# EAGLE library part LED_DRIVER_TLC5946PWPR (library GTOR - Active Components)
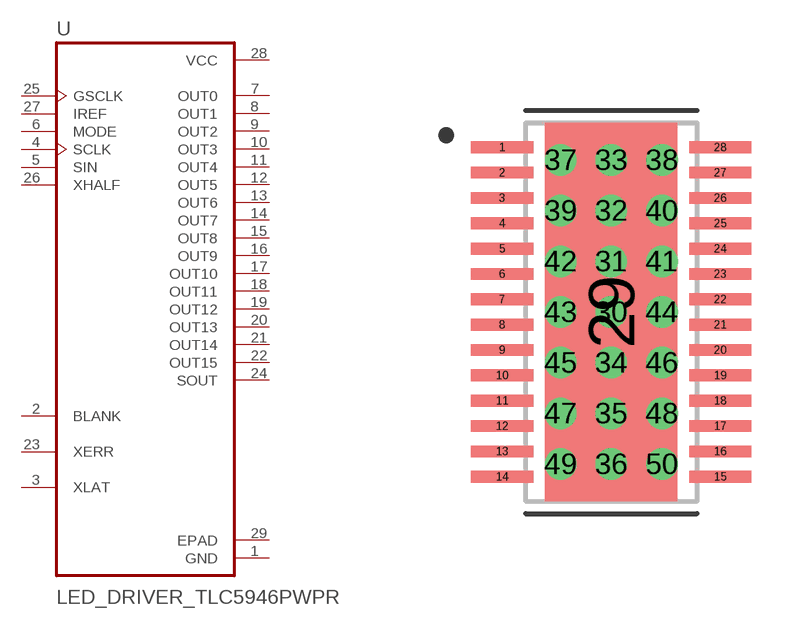
[diagram p14: symbol with the pads of IC_TPS61196PWPRQ1; footprint IC_TPS61196PWPRQ1]

Designator prefix U

## LED_DRIVER_TLC5946PWPR (DESCRIPTION: 16-channel, 12-bit PWM LED driver with 6-bit dot correction 28-HTSSOP -40 to 85; DIGI-KEY_PART_NUMBER: 296-46219-1-ND; MF: Texas Instruments; MP: TLC5946PWPR; PACKAGE: HTSSOP-28 Texas Instruments; PURCHASE-URL: https://pricing.snapeda.com/search/part/TLC5946PWPR/?ref=eda)  [IC_TPS61196PWPRQ1]
1  GND  pwr
2  BLANK
3  XLAT
4  SCLK  in
5  SIN  in
6  MODE  in
7  OUT0  out
8  OUT1  out
9  OUT2  out
10  OUT3  out
11  OUT4  out
12  OUT5  out
13  OUT6  out
14  OUT7  out
15  OUT8  out
16  OUT9  out
17  OUT10  out
18  OUT11  out
19  OUT12  out
20  OUT13  out
21  OUT14  out
22  OUT15  out
23  XERR
24  SOUT  out
25  GSCLK  in
26  XHALF  in
27  IREF  in
28  VCC  pwr
29  EPAD  pwr

## Footprint IC_TPS61196PWPRQ1 (pad centres in mm)
smd 1.6 x 0.3: 1 -2.8,4.225; 2 -2.8,3.575; 3 -2.8,2.925; 4 -2.8,2.275; 5 -2.8,1.625; 6 -2.8,0.975; 7 -2.8,0.325; 8 -2.8,-0.325; 9 -2.8,-0.975; 10 -2.8,-1.625; 11 -2.8,-2.275; 12 -2.8,-2.925; 13 -2.8,-3.575; 14 -2.8,-4.225; 15 2.8,-4.225; 16 2.8,-3.575; 17 2.8,-2.925; 18 2.8,-2.275; 19 2.8,-1.625; 20 2.8,-0.975; 21 2.8,-0.325; 22 2.8,0.325; 23 2.8,0.975; 24 2.8,1.625; 25 2.8,2.275; 26 2.8,2.925; 27 2.8,3.575; 28 2.8,4.225
smd 3.4 x 9.7: 29 0,0
drill 0.3 pad 0.5: 30 0,0; 31 0,1.3; 32 0,2.6; 33 0,3.9; 34 0,-1.3; 35 0,-2.6; 36 0,-3.9; 37 -1.3,3.9; 38 1.3,3.9; 39 -1.3,2.6; 40 1.3,2.6; 41 1.3,1.3; 42 -1.3,1.3; 43 -1.3,0; 44 1.3,0; 45 -1.3,-1.3; 46 1.3,-1.3; 47 -1.3,-2.6; 48 1.3,-2.6; 49 -1.3,-3.9; 50 1.3,-3.9